# Altium schematic symbol library CON_RJ45-8-pin.SchLib: 1 symbol
Pins are listed as number, name and electrical type; pins without a type are passive.

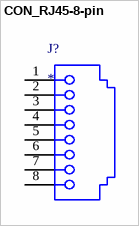
[diagram p0: symbol CON_RJ45-8-pin]

## CON_RJ45-8-pin
designator J?
pins: 1, 2, 3, 4, 5, 6, 7, 8